# Altium schematic symbol library USB2_4Pin.Schlib: 1 symbol
Pins are listed as number, name and electrical type; pins without a type are passive.

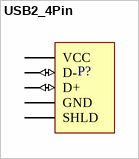
[diagram p0: symbol USB2_4Pin]

## USB2_4Pin
designator P?
USB 1 1.1 2.0 without ID
pins: 1 VCC (power), 2 D- (io), 3 D+ (io), 4 GND (power), 5 SHLD